# Altium schematic symbol library schlib.SchLib: 15 symbols
Pins are listed as number, name and electrical type; pins without a type are passive.

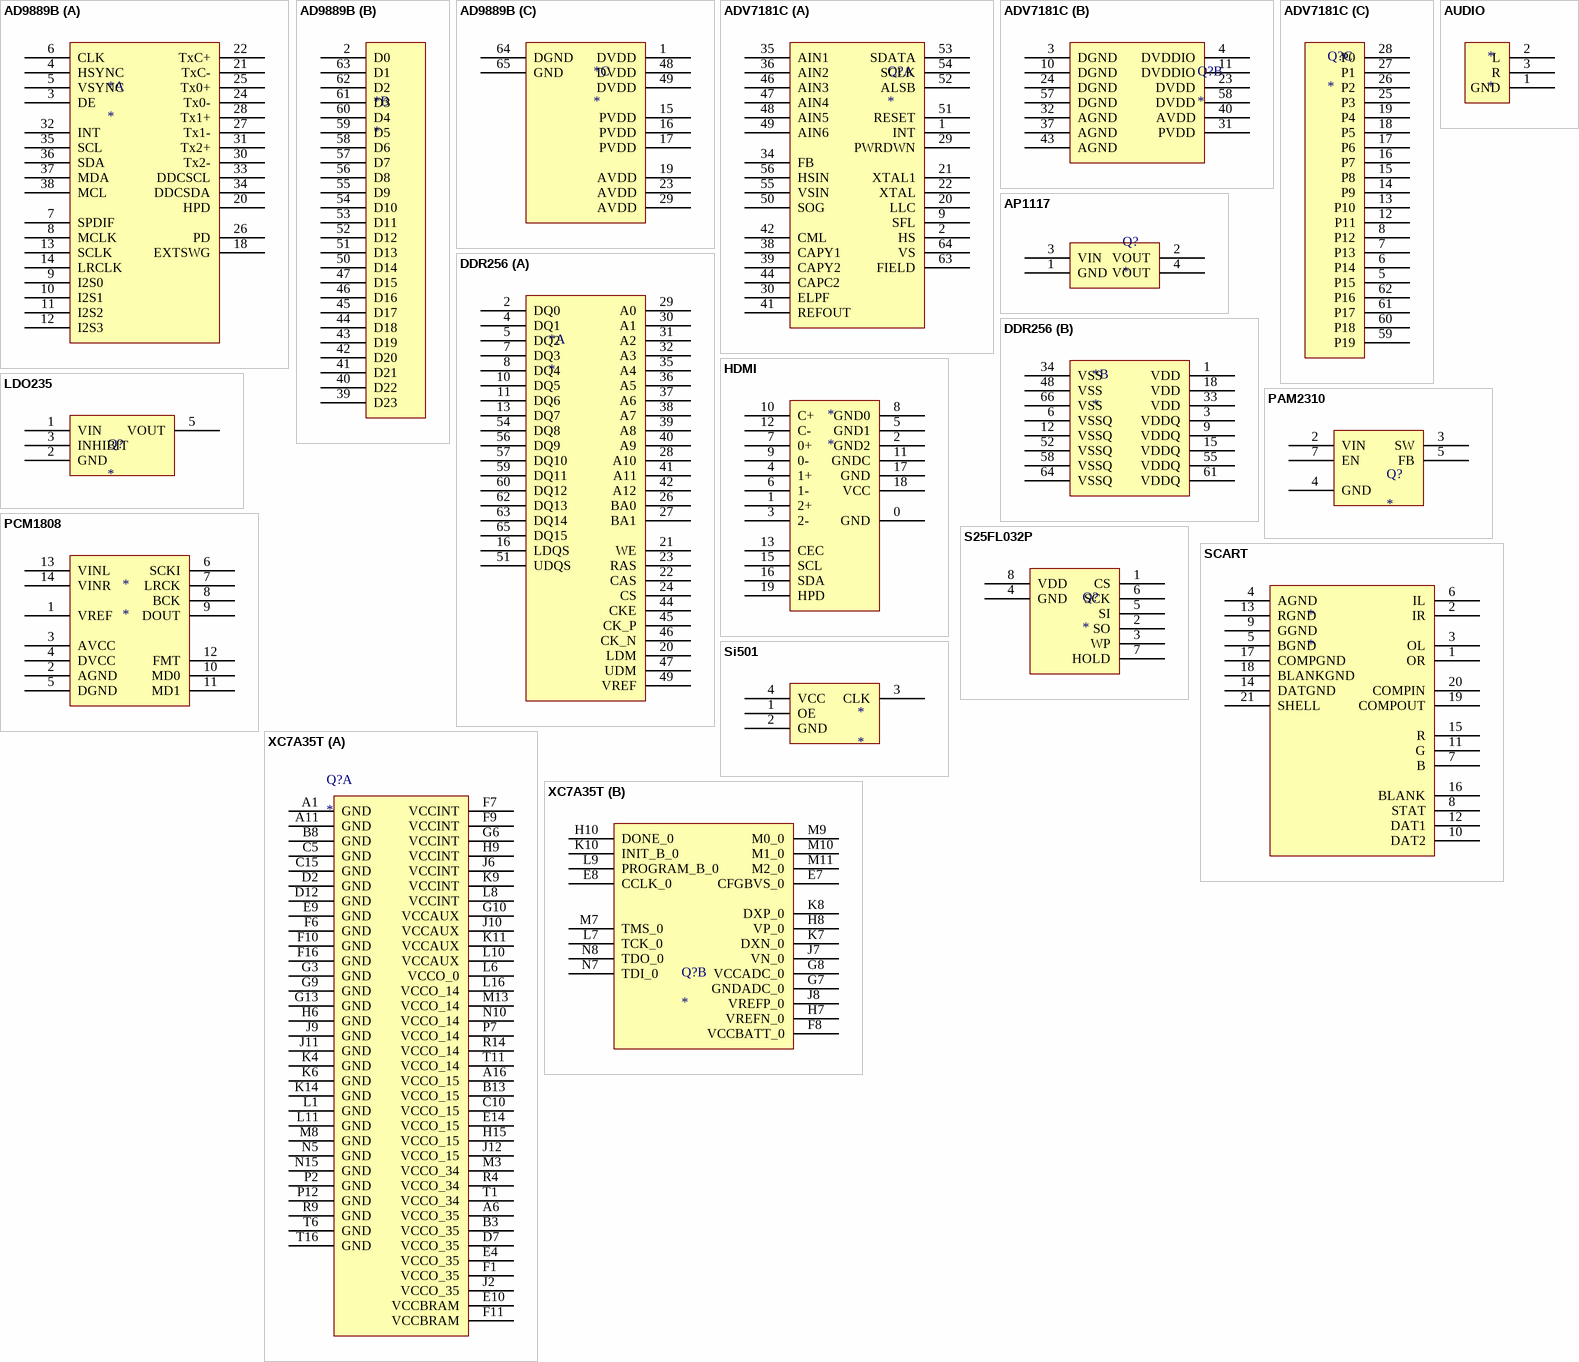
[diagram p0: symbols AD9889B to XC7A35T]

## AD9889B
designator *
footprint QFN50P900X875X100_HS-65N (QFN, 64-Leads, Body 9.00x8.75mm, Pitch 0.50mm, Thermal Pad 4.70x4.70mm, IPC Medium Density)
part A pins: 3 DE, 4 HSYNC, 5 VSYNC, 6 CLK, 7 SPDIF, 8 MCLK, 9 I2S0, 10 I2S1, 11 I2S2, 12 I2S3, 13 SCLK, 14 LRCLK, 18 EXTSWG, 20 HPD, 21 TxC-, 22 TxC+, 24 Tx0-, 25 Tx0+, 26 PD, 27 Tx1-, 28 Tx1+, 30 Tx2-, 31 Tx2+, 32 INT, 33 DDCSCL, 34 DDCSDA, 35 SCL, 36 SDA, 37 MDA, 38 MCL
part B pins: 2 D0, 39 D23, 40 D22, 41 D21, 42 D20, 43 D19, 44 D18, 45 D17, 46 D16, 47 D15, 50 D14, 51 D13, 52 D12, 53 D11, 54 D10, 55 D9, 56 D8, 57 D7, 58 D6, 59 D5, 60 D4, 61 D3, 62 D2, 63 D1
part C pins: 1 DVDD, 15 PVDD, 16 PVDD, 17 PVDD, 19 AVDD, 23 AVDD, 29 AVDD, 48 DVDD, 49 DVDD, 64 DGND, 65 GND

## ADV7181C
designator Q?
footprint TSQFP50P1200X1200X145-64N (TSQFP, 64-Leads, Body 10.00x10.00mm, Pitch 0.50mm, IPC Medium Density)
part A pins: 1 INT, 2 HS, 9 SFL, 20 LLC, 21 XTAL1, 22 XTAL, 29 PWRDWN, 30 ELPF, 34 FB, 35 AIN1, 36 AIN2, 38 CAPY1, 39 CAPY2, 41 REFOUT, 42 CML, 44 CAPC2, 46 AIN3, 47 AIN4, 48 AIN5, 49 AIN6, 50 SOG, 51 RESET, 52 ALSB, 53 SDATA, 54 SCLK, 55 VSIN, 56 HSIN, 63 FIELD, 64 VS
part B pins: 3 DGND, 4 DVDDIO, 10 DGND, 11 DVDDIO, 23 DVDD, 24 DGND, 31 PVDD, 32 AGND, 37 AGND, 40 AVDD, 43 AGND, 57 DGND, 58 DVDD
part C pins: 5 P15, 6 P14, 7 P13, 8 P12, 12 P11, 13 P10, 14 P9, 15 P8, 16 P7, 17 P6, 18 P5, 19 P4, 25 P3, 26 P2, 27 P1, 28 P0, 59 P19, 60 P18, 61 P17, 62 P16

## AP1117
designator Q?
footprint SOT223 (SOT223 /SC-73)
pins: 1 GND, 2 VOUT, 3 VIN, 4 VOUT

## AUDIO
designator *
footprint SJ1-3533NG
pins: 1 GND, 2 L, 3 R

## DDR256
designator *
footprint TSOP65P1180X120-66N (TSOP, 66-Leads, Body 22.22x10.06mm, Pitch 0.65mm, IPC Medium Density)
part A pins: 2 DQ0, 4 DQ1, 5 DQ2, 7 DQ3, 8 DQ4, 10 DQ5, 11 DQ6, 13 DQ7, 16 LDQS, 20 LDM, 21 WE, 22 CAS, 23 RAS, 24 CS, 26 BA0, 27 BA1, 28 A10, 29 A0, 30 A1, 31 A2, 32 A3, 35 A4, 36 A5, 37 A6, 38 A7, 39 A8, 40 A9, 41 A11, 42 A12, 44 CKE, 45 CK_P, 46 CK_N, 47 UDM, 49 VREF, 51 UDQS, 54 DQ8, 56 DQ9, 57 DQ10, 59 DQ11, 60 DQ12, 62 DQ13, 63 DQ14, 65 DQ15
part B pins: 1 VDD, 3 VDDQ, 6 VSSQ, 9 VDDQ, 12 VSSQ, 15 VDDQ, 18 VDD, 33 VDD, 34 VSS, 48 VSS, 52 VSSQ, 55 VDDQ, 58 VSSQ, 61 VDDQ, 64 VSSQ, 66 VSS

## HDMI
designator *
footprint 2000-1-1-20-00-BK
pins: 0 GND, 1 2+, 2 GND2, 3 2-, 4 1+, 5 GND1, 6 1-, 7 0+, 8 GND0, 9 0-, 10 C+, 11 GNDC, 12 C-, 13 CEC, 15 SCL, 16 SDA, 17 GND, 18 VCC, 19 HPD

## LDO235
designator Q?
footprint SOT23-5
pins: 1 VIN, 2 GND, 3 INHIBIT, 5 VOUT

## PAM2310
designator Q?
footprint SOIC127P600X175-8AN (SOIC, 8-Leads, Body 4.9x3.9mm, Pitch 1.27mm, IPC Medium Density)
pins: 2 VIN, 3 SW, 4 GND, 5 FB, 7 EN

## PCM1808
designator *
footprint TSOP65P640X120-14N (TSOP, 14-Leads, Body 5.00x4.40mm, Pitch 0.65mm, IPC Medium Density)
pins: 1 VREF, 2 AGND, 3 AVCC, 4 DVCC, 5 DGND, 6 SCKI, 7 LRCK, 8 BCK, 9 DOUT, 10 MD0, 11 MD1, 12 FMT, 13 VINL, 14 VINR

## S25FL032P
designator Q?
footprint SOIC127P600X175-8AN (SOIC, 8-Leads, Body 4.9x3.9mm, Pitch 1.27mm, IPC Medium Density)
pins: 1 CS, 2 SO, 3 WP, 4 GND, 5 SI, 6 SCK, 7 HOLD, 8 VDD

## SCART
designator *
pins: 1 OR, 2 IR, 3 OL, 4 AGND, 5 BGND, 6 IL, 7 B, 8 STAT, 9 GGND, 10 DAT2, 11 G, 12 DAT1, 13 RGND, 14 DATGND, 15 R, 16 BLANK, 17 COMPGND, 18 BLANKGND, 19 COMPOUT, 20 COMPIN, 21 SHELL

## Si501
designator *
footprint Si501_225
pins: 1 OE, 2 GND, 3 CLK, 4 VCC

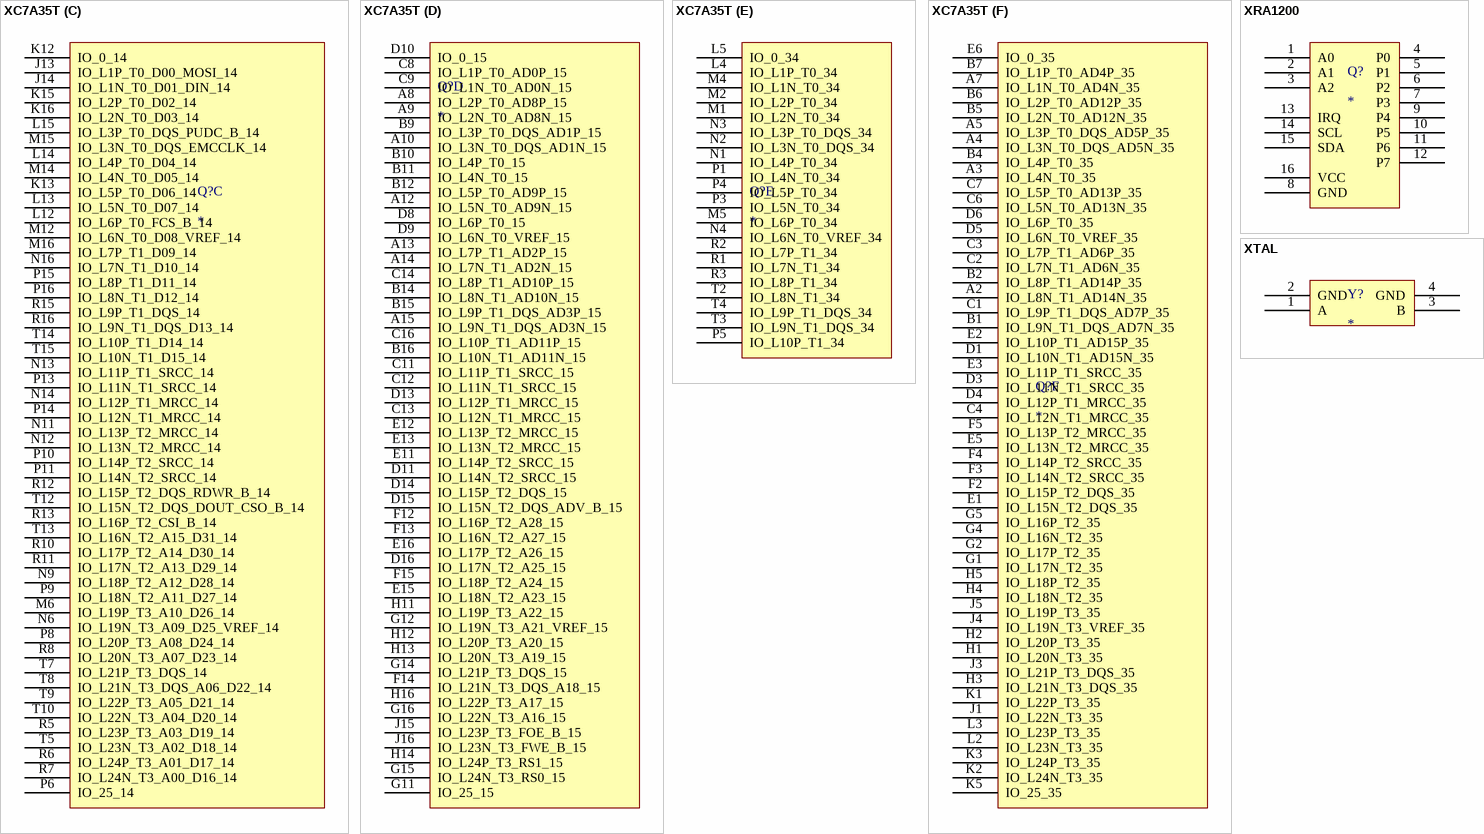
[diagram p1: symbols XC7A35T to XTAL]

## XC7A35T
designator Q?
footprint BGA256C100P16X16_1700X1700X155 (BGA, 256-Leads, Body 17.00x17.00mmx1.55mm, Pitch 1.00mm)
part A pins: A1 GND, A6 VCCO_35, A11 GND, A16 VCCO_15, B3 VCCO_35, B8 GND, B13 VCCO_15, C5 GND, C10 VCCO_15, C15 GND, D2 GND, D7 VCCO_35, D12 GND, E4 VCCO_35, E9 GND, E10 VCCBRAM, E14 VCCO_15, F1 VCCO_35, F6 GND, F7 VCCINT, F9 VCCINT, F10 GND, F11 VCCBRAM, F16 GND, G3 GND, G6 VCCINT, G9 GND, G10 VCCAUX, G13 GND, H6 GND, H9 VCCINT, H15 VCCO_15, J2 VCCO_35, J6 VCCINT, J9 GND, J10 VCCAUX, J11 GND, J12 VCCO_15, K4 GND, K6 GND, K9 VCCINT, K11 VCCAUX, K14 GND, L1 GND, L6 VCCO_0, L8 VCCINT, L10 VCCAUX, L11 GND, L16 VCCO_14, M3 VCCO_34, M8 GND, M13 VCCO_14, N5 GND, N10 VCCO_14, N15 GND, P2 GND, P7 VCCO_14, P12 GND, R4 VCCO_34, R9 GND, R14 VCCO_14, T1 VCCO_34, T6 GND, T11 VCCO_14, T16 GND
part B pins: E7 CFGBVS_0, E8 CCLK_0, F8 VCCBATT_0, G7 GNDADC_0, G8 VCCADC_0, H7 VREFN_0, H8 VP_0, H10 DONE_0, J7 VN_0, J8 VREFP_0, K7 DXN_0, K8 DXP_0, K10 INIT_B_0, L7 TCK_0, L9 PROGRAM_B_0, M7 TMS_0, M9 M0_0, M10 M1_0, M11 M2_0, N7 TDI_0, N8 TDO_0
part C pins: J13 IO_L1P_T0_D00_MOSI_14, J14 IO_L1N_T0_D01_DIN_14, K12 IO_0_14, K13 IO_L5P_T0_D06_14, K15 IO_L2P_T0_D02_14, K16 IO_L2N_T0_D03_14, L12 IO_L6P_T0_FCS_B_14, L13 IO_L5N_T0_D07_14, L14 IO_L4P_T0_D04_14, L15 IO_L3P_T0_DQS_PUDC_B_14, M6 IO_L19P_T3_A10_D26_14, M12 IO_L6N_T0_D08_VREF_14, M14 IO_L4N_T0_D05_14, M15 IO_L3N_T0_DQS_EMCCLK_14, M16 IO_L7P_T1_D09_14, N6 IO_L19N_T3_A09_D25_VREF_14, N9 IO_L18P_T2_A12_D28_14, N11 IO_L13P_T2_MRCC_14, N12 IO_L13N_T2_MRCC_14, N13 IO_L11P_T1_SRCC_14, N14 IO_L12P_T1_MRCC_14, N16 IO_L7N_T1_D10_14, P6 IO_25_14, P8 IO_L20P_T3_A08_D24_14, P9 IO_L18N_T2_A11_D27_14, P10 IO_L14P_T2_SRCC_14, P11 IO_L14N_T2_SRCC_14, P13 IO_L11N_T1_SRCC_14, P14 IO_L12N_T1_MRCC_14, P15 IO_L8P_T1_D11_14, P16 IO_L8N_T1_D12_14, R5 IO_L23P_T3_A03_D19_14, R6 IO_L24P_T3_A01_D17_14, R7 IO_L24N_T3_A00_D16_14, R8 IO_L20N_T3_A07_D23_14, R10 IO_L17P_T2_A14_D30_14, R11 IO_L17N_T2_A13_D29_14, R12 IO_L15P_T2_DQS_RDWR_B_14, R13 IO_L16P_T2_CSI_B_14, R15 IO_L9P_T1_DQS_14, R16 IO_L9N_T1_DQS_D13_14, T5 IO_L23N_T3_A02_D18_14, T7 IO_L21P_T3_DQS_14, T8 IO_L21N_T3_DQS_A06_D22_14, T9 IO_L22P_T3_A05_D21_14, T10 IO_L22N_T3_A04_D20_14, T12 IO_L15N_T2_DQS_DOUT_CSO_B_14, T13 IO_L16N_T2_A15_D31_14, T14 IO_L10P_T1_D14_14, T15 IO_L10N_T1_D15_14
part D pins: A8 IO_L2P_T0_AD8P_15, A9 IO_L2N_T0_AD8N_15, A10 IO_L3N_T0_DQS_AD1N_15, A12 IO_L5N_T0_AD9N_15, A13 IO_L7P_T1_AD2P_15, A14 IO_L7N_T1_AD2N_15, A15 IO_L9N_T1_DQS_AD3N_15, B9 IO_L3P_T0_DQS_AD1P_15, B10 IO_L4P_T0_15, B11 IO_L4N_T0_15, B12 IO_L5P_T0_AD9P_15, B14 IO_L8N_T1_AD10N_15, B15 IO_L9P_T1_DQS_AD3P_15, B16 IO_L10N_T1_AD11N_15, C8 IO_L1P_T0_AD0P_15, C9 IO_L1N_T0_AD0N_15, C11 IO_L11P_T1_SRCC_15, C12 IO_L11N_T1_SRCC_15, C13 IO_L12N_T1_MRCC_15, C14 IO_L8P_T1_AD10P_15, C16 IO_L10P_T1_AD11P_15, D8 IO_L6P_T0_15, D9 IO_L6N_T0_VREF_15, D10 IO_0_15, D11 IO_L14N_T2_SRCC_15, D13 IO_L12P_T1_MRCC_15, D14 IO_L15P_T2_DQS_15, D15 IO_L15N_T2_DQS_ADV_B_15, D16 IO_L17N_T2_A25_15, E11 IO_L14P_T2_SRCC_15, E12 IO_L13P_T2_MRCC_15, E13 IO_L13N_T2_MRCC_15, E15 IO_L18N_T2_A23_15, E16 IO_L17P_T2_A26_15, F12 IO_L16P_T2_A28_15, F13 IO_L16N_T2_A27_15, F14 IO_L21N_T3_DQS_A18_15, F15 IO_L18P_T2_A24_15, G11 IO_25_15, G12 IO_L19N_T3_A21_VREF_15, G14 IO_L21P_T3_DQS_15, G15 IO_L24N_T3_RS0_15, G16 IO_L22N_T3_A16_15, H11 IO_L19P_T3_A22_15, H12 IO_L20P_T3_A20_15, H13 IO_L20N_T3_A19_15, H14 IO_L24P_T3_RS1_15, H16 IO_L22P_T3_A17_15, J15 IO_L23P_T3_FOE_B_15, J16 IO_L23N_T3_FWE_B_15
part E pins: L4 IO_L1P_T0_34, L5 IO_0_34, M1 IO_L2N_T0_34, M2 IO_L2P_T0_34, M4 IO_L1N_T0_34, M5 IO_L6P_T0_34, N1 IO_L4P_T0_34, N2 IO_L3N_T0_DQS_34, N3 IO_L3P_T0_DQS_34, N4 IO_L6N_T0_VREF_34, P1 IO_L4N_T0_34, P3 IO_L5N_T0_34, P4 IO_L5P_T0_34, P5 IO_L10P_T1_34, R1 IO_L7N_T1_34, R2 IO_L7P_T1_34, R3 IO_L8P_T1_34, T2 IO_L8N_T1_34, T3 IO_L9N_T1_DQS_34, T4 IO_L9P_T1_DQS_34
part F pins: A2 IO_L8N_T1_AD14N_35, A3 IO_L4N_T0_35, A4 IO_L3N_T0_DQS_AD5N_35, A5 IO_L3P_T0_DQS_AD5P_35, A7 IO_L1N_T0_AD4N_35, B1 IO_L9N_T1_DQS_AD7N_35, B2 IO_L8P_T1_AD14P_35, B4 IO_L4P_T0_35, B5 IO_L2N_T0_AD12N_35, B6 IO_L2P_T0_AD12P_35, B7 IO_L1P_T0_AD4P_35, C1 IO_L9P_T1_DQS_AD7P_35, C2 IO_L7N_T1_AD6N_35, C3 IO_L7P_T1_AD6P_35, C4 IO_L12N_T1_MRCC_35, C6 IO_L5N_T0_AD13N_35, C7 IO_L5P_T0_AD13P_35, D1 IO_L10N_T1_AD15N_35, D3 IO_L11N_T1_SRCC_35, D4 IO_L12P_T1_MRCC_35, D5 IO_L6N_T0_VREF_35, D6 IO_L6P_T0_35, E1 IO_L15N_T2_DQS_35, E2 IO_L10P_T1_AD15P_35, E3 IO_L11P_T1_SRCC_35, E5 IO_L13N_T2_MRCC_35, E6 IO_0_35, F2 IO_L15P_T2_DQS_35, F3 IO_L14N_T2_SRCC_35, F4 IO_L14P_T2_SRCC_35, F5 IO_L13P_T2_MRCC_35, G1 IO_L17N_T2_35, G2 IO_L17P_T2_35, G4 IO_L16N_T2_35, G5 IO_L16P_T2_35, H1 IO_L20N_T3_35, H2 IO_L20P_T3_35, H3 IO_L21N_T3_DQS_35, H4 IO_L18N_T2_35, H5 IO_L18P_T2_35, J1 IO_L22N_T3_35, J3 IO_L21P_T3_DQS_35, J4 IO_L19N_T3_VREF_35, J5 IO_L19P_T3_35, K1 IO_L22P_T3_35, K2 IO_L24N_T3_35, K3 IO_L24P_T3_35, K5 IO_25_35, L2 IO_L23N_T3_35, L3 IO_L23P_T3_35

## XRA1200
designator Q?
footprint TSOP65P640X120-16N (TSOP, 16-Leads, Body 5.00x4.40mm, Pitch 0.65mm, IPC Medium Density)
pins: 1 A0, 2 A1, 3 A2, 4 P0, 5 P1, 6 P2, 7 P3, 8 GND, 9 P4, 10 P5, 11 P6, 12 P7, 13 IRQ, 14 SCL, 15 SDA, 16 VCC

## XTAL
designator Y?
footprint ABM8G
pins: 1 A, 2 GND, 3 B, 4 GND